# EAGLE library part AXK5F70 (library STEMTera)
Panasonic P5KF 0.5mm 70 Pin Socket ( 1.5mm, 2mm, 2.5mm Mated Height )
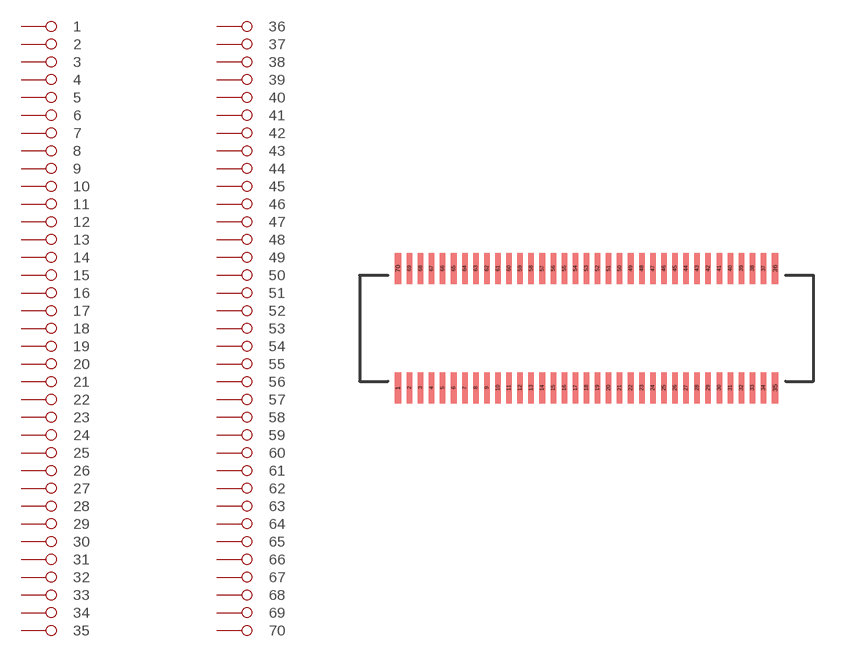
[diagram p23: symbol with the pads of AXK5F70; footprint AXK5F70]

Designator prefix -

## AXK5F70  [AXK5F70]
1  1
2  2
3  3
4  4
5  5
6  6
7  7
8  8
9  9
10  10
11  11
12  12
13  13
14  14
15  15
16  16
17  17
18  18
19  19
20  20
21  21
22  22
23  23
24  24
25  25
26  26
27  27
28  28
29  29
30  30
31  31
32  32
33  33
34  34
35  35
36  36
37  37
38  38
39  39
40  40
41  41
42  42
43  43
44  44
45  45
46  46
47  47
48  48
49  49
50  50
51  51
52  52
53  53
54  54
55  55
56  56
57  57
58  58
59  59
60  60
61  61
62  62
63  63
64  64
65  65
66  66
67  67
68  68
69  69
70  70

## Footprint AXK5F70 (pad centres in mm)
Panasonic P5KF 0.5mm 70 Pin Socket
smd 0.3 x 1.4: 1 -0.025,0; 35 17.025,0; 36 17.025,5.4; 70 -0.025,5.4
smd 0.25 x 1.4: 2 0.5,0; 3 1,0; 4 1.5,0; 5 2,0; 6 2.5,0; 7 3,0; 8 3.5,0; 9 4,0; 10 4.5,0; 11 5,0; 12 5.5,0; 13 6,0; 14 6.5,0; 15 7,0; 16 7.5,0; 17 8,0; 18 8.5,0; 19 9,0; 20 9.5,0; 21 10,0; 22 10.5,0; 23 11,0; 24 11.5,0; 25 12,0; 26 12.5,0; 27 13,0; 28 13.5,0; 29 14,0; 30 14.5,0; 31 15,0; 32 15.5,0; 33 16,0; 34 16.5,0; 37 16.5,5.4; 38 16,5.4; 39 15.5,5.4; 40 15,5.4; 41 14.5,5.4; 42 14,5.4; 43 13.5,5.4; 44 13,5.4; 45 12.5,5.4; 46 12,5.4; 47 11.5,5.4; 48 11,5.4; 49 10.5,5.4; 50 10,5.4; 51 9.5,5.4; 52 9,5.4; 53 8.5,5.4; 54 8,5.4; 55 7.5,5.4; 56 7,5.4; 57 6.5,5.4; 58 6,5.4; 59 5.5,5.4; 60 5,5.4; 61 4.5,5.4; 62 4,5.4; 63 3.5,5.4; 64 3,5.4; 65 2.5,5.4; 66 2,5.4; 67 1.5,5.4; 68 1,5.4; 69 0.5,5.4